# EAGLE library part LPH-7366 (library lph-7366_v4)
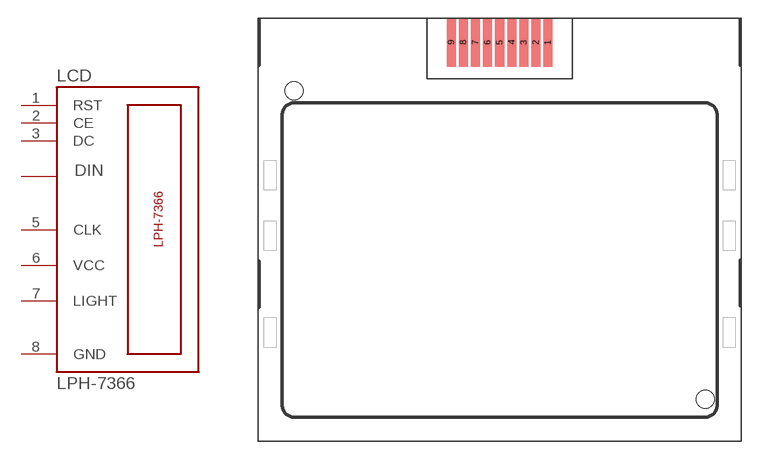
[diagram p0: symbol with the pads of LPH-7366; footprint LPH-7366]

Designator prefix LCD

## LPH-7366  [LPH-7366]
1  RST  in
2  CE  in
3  DC  in
4  DIN
5  CLK  pas
6  VCC  pwr
7  LIGHT  pas
8  GND  pwr

## Footprint LPH-7366 (pad centres in mm)
smd 0.75 x 4: 1 4,17; 2 3,17; 3 2,17; 4 1,17; 5 0,17; 6 -1,17; 7 -2,17; 8 -3,17; 9 -4,17
hole 1.5 at -17,13
hole 1.5 at 17,-12.5